# Altium footprint library OL_XB-D_2X2X18.pcblib: 1 footprints
Each footprint in its own frame and in the unit in brackets; x right, y up, seen from the top. Pads: shape width x height; smd on the part's side, far side on the other; paste and mask are expansions set on the pad; w line width, h text height; cw(c..) or ccw(c..) is an arc to the next point about the centre after c.
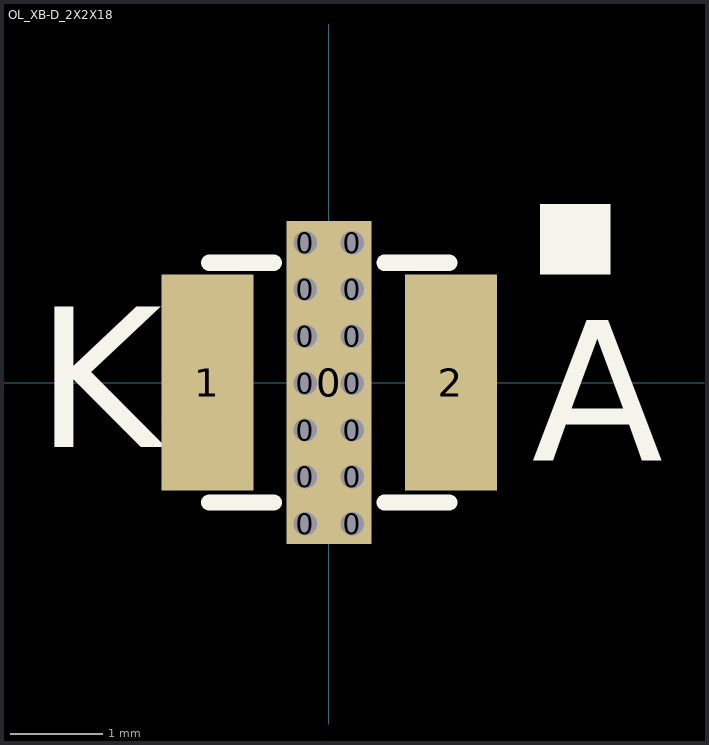
[diagram p0: the footprint, top view; thin cyan lines are the x and y axes]

## OL_XB-D_2X2X18 [mil]
pads (17):
  round 16 hole 10: 0(-9.98,-60.23) 0(-9.98,-40.23) 0(-9.98,-20.23) 0(-9.98,-0.23) 0(-9.98,19.77) 0(-9.98,39.77) 0(-9.98,59.77) 0(10.02,-60.23) 0(10.02,-40.23) 0(10.02,-20.23) 0(10.02,-0.23) 0(10.02,19.77) 0(10.02,39.77) 0(10.02,59.77)
  rect 36.22x137.79 smd: 0(0.21,0)
  rect 39.37x92.13 smd: 1(-51.76,0) 2(52.18,0)
Top Overlay:
  rectangle: 90.21,46.23 120.21,76.23
  lines w7: -50.97,-51.18 -23.41,-51.18 ; -50.97,51.18 -23.41,51.18 ; 23.83,-51.18 51.39,-51.18 ; 23.84,51.18 51.39,51.18
  text "K" at -125,-27.56 h60
  text "A" at 86.61,-33.46 h60
Top Paste:
  region: 68,42 47,42 47,-42 68,-42
  rectangle: -67,-42 -46,42
Courtyard Top:
  circle w6: c0,0 r10
3D body "User Library-led SMD 3_2X2_8 MM.step": height 77.95, standoff 0, extent -72.62,-59.05 73.05,59.06